# Altium footprint library CL10A106MO8NQNC.PcbLib: 1 footprints
Each footprint in its own frame and in the unit in brackets; x right, y up, seen from the top. Pads: shape width x height; smd on the part's side, far side on the other; paste and mask are expansions set on the pad; w line width, h text height; cw(c..) or ccw(c..) is an arc to the next point about the centre after c.
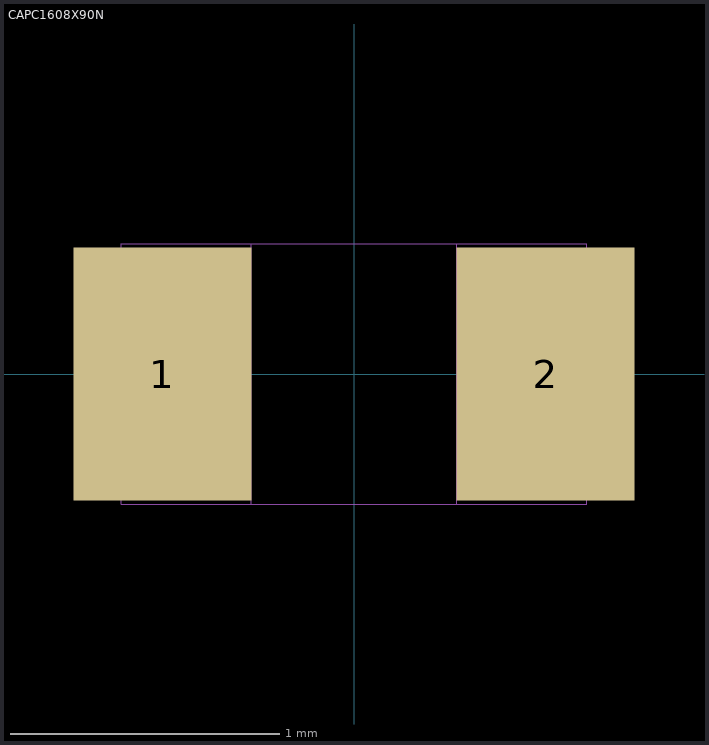
[diagram p0: the footprint, top view; thin cyan lines are the x and y axes]

## CAPC1608X90N [mil]
pads (2):
  rect 26x37 smd: 1(-28,0) 2(28,0)
Mechanical 13:
  lines w0: -15,-19 15,-19 ; -15,-19 -34,-19 -34,19 -15,19 ; -15,-19 -15,19 ; -15,19 15,19 ; 15,-19 34,-19 34,19 15,19 ; 15,-19 15,19
3D body "step_temp.STEP": height 17.72, standoff -17.72, extent -31.5,-15.75 31.5,15.75